# EAGLE library part STM32F446VET6_MULTI_SYMBOL (library U-ST-STM32F446VE-uC)
STMICROELECTRONICS - STM32F446VET6 - MCU, 32BIT, CORTEX-M4, 180MHZ, LQFP-100 Source: Datasheet <https://www.mouser.com/datasheet/2/389/stm32f446mc-956216.pdf>
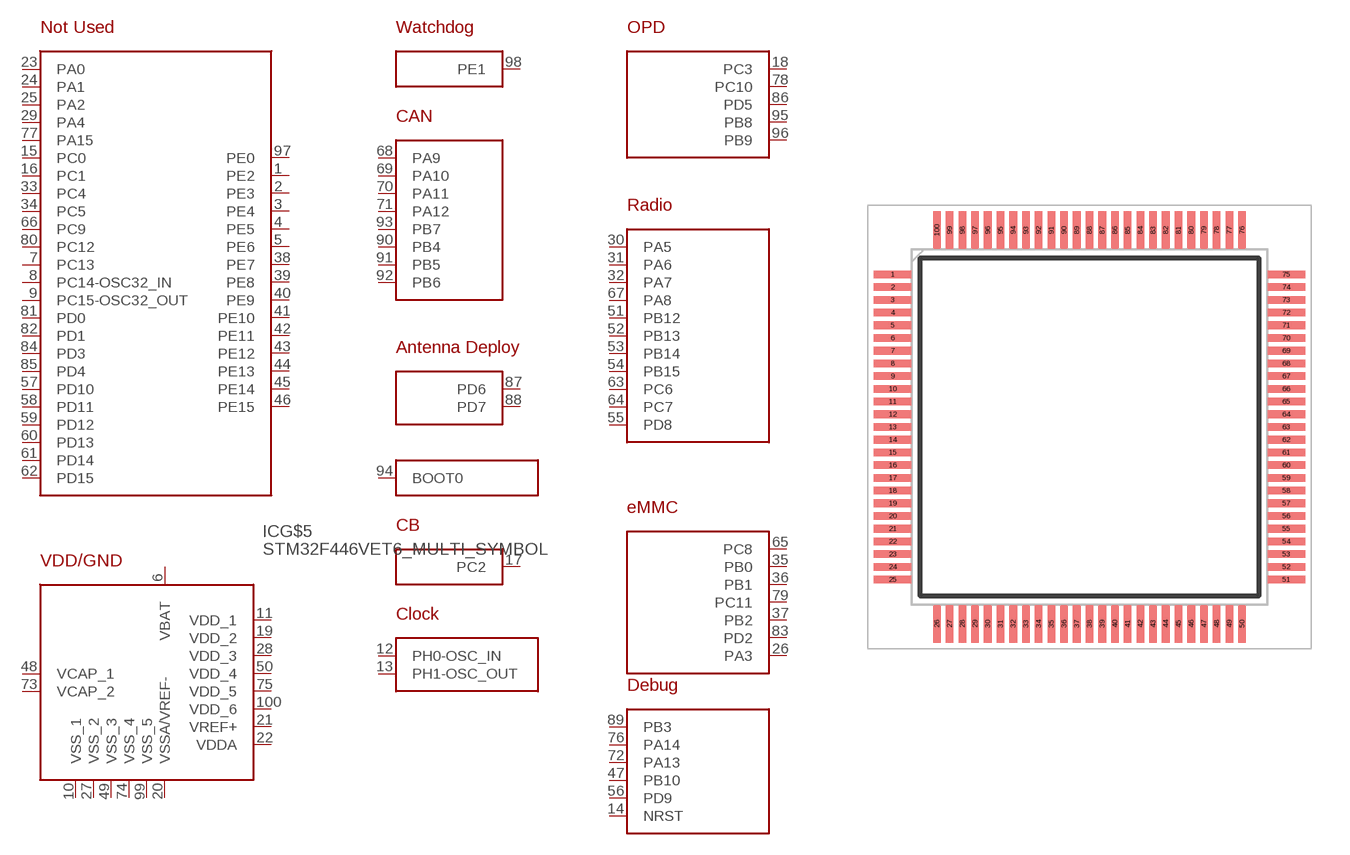
[diagram p1: symbol with the pads of QFP50P1600X1600X160-100N; footprint QFP50P1600X1600X160-100N]

Designator prefix IC; gates G$1=STM32F446VET6_CAN G$2=STM32F446VET6_!USED G$3=STM32F446VET6_RADIO G$4=STM32F446VET6_SD G$5=STM32F446VET6_VDD G$6=STM32F446VET6_BOOT G$7=STM32F446VET6_ANTENNA_DEPLOY G$8=STM32F446VET6_CB G$9=STM32F446VET6_CRYSTAL G$10=STM32F446VET6_DEBUG G$11=STM32F446VET6_OPD G$12=STM32F446VET6_WATCHDOG

## STM32F446VET6_MULTI_SYMBOL (DESCRIPTION: STMICROELECTRONICS - STM32F446VET6 - MCU, 32BIT, CORTEX-M4, 180MHZ, LQFP-100; HEIGHT: 1.6mm; MANUFACTURER_NAME: STMicroelectronics; MANUFACTURER_PART_NUMBER: STM32F446VET6; MOUSER_PART_NUMBER: 511-STM32F446VET6; MOUSER_PRICE-STOCK: https://www.mouser.com/Search/Refine.aspx?Keyword=511-STM32F446VET6; RS_PART_NUMBER: 1962043; RS_PRICE-STOCK: http://uk.rs-online.com/web/p/products/1962043)  [QFP50P1600X1600X160-100N]
1  G$2:PE2
2  G$2:PE3
3  G$2:PE4
4  G$2:PE5
5  G$2:PE6
6  G$5:VBAT
7  G$2:PC13
8  G$2:PC14-OSC32_IN
9  G$2:PC15-OSC32_OUT
10  G$5:VSS_1
11  G$5:VDD_1
12  G$9:PH0-OSC_IN
13  G$9:PH1-OSC_OUT
14  G$10:NRST
15  G$2:PC0
16  G$2:PC1
17  G$8:PC2
18  G$11:PC3
19  G$5:VDD_2
20  G$5:VSSA/VREF-
21  G$5:VREF+
22  G$5:VDDA
23  G$2:PA0
24  G$2:PA1
25  G$2:PA2
26  G$4:PA3
27  G$5:VSS_2
28  G$5:VDD_3
29  G$2:PA4
30  G$3:PA5
31  G$3:PA6
32  G$3:PA7
33  G$2:PC4
34  G$2:PC5
35  G$4:PB0
36  G$4:PB1
37  G$4:PB2
38  G$2:PE7
39  G$2:PE8
40  G$2:PE9
41  G$2:PE10
42  G$2:PE11
43  G$2:PE12
44  G$2:PE13
45  G$2:PE14
46  G$2:PE15
47  G$10:PB10
48  G$5:VCAP_1
49  G$5:VSS_3
50  G$5:VDD_4
51  G$3:PB12
52  G$3:PB13
53  G$3:PB14
54  G$3:PB15
55  G$3:PD8
56  G$10:PD9
57  G$2:PD10
58  G$2:PD11
59  G$2:PD12
60  G$2:PD13
61  G$2:PD14
62  G$2:PD15
63  G$3:PC6
64  G$3:PC7
65  G$4:PC8
66  G$2:PC9
67  G$3:PA8
68  G$1:PA9
69  G$1:PA10
70  G$1:PA11
71  G$1:PA12
72  G$10:PA13
73  G$5:VCAP_2
74  G$5:VSS_4
75  G$5:VDD_5
76  G$10:PA14
77  G$2:PA15
78  G$11:PC10
79  G$4:PC11
80  G$2:PC12
81  G$2:PD0
82  G$2:PD1
83  G$4:PD2
84  G$2:PD3
85  G$2:PD4
86  G$11:PD5
87  G$7:PD6
88  G$7:PD7
89  G$10:PB3
90  G$1:PB4
91  G$1:PB5
92  G$1:PB6
93  G$1:PB7
94  G$6:BOOT0
95  G$11:PB8
96  G$11:PB9
97  G$2:PE0
98  G$12:PE1
99  G$5:VSS_5
100  G$5:VDD_6

## Footprint QFP50P1600X1600X160-100N (pad centres in mm)
STM32F446VET6
smd 1.475 x 0.3: 1 -7.738,6; 2 -7.738,5.5; 3 -7.738,5; 4 -7.738,4.5; 5 -7.738,4; 6 -7.738,3.5; 7 -7.738,3; 8 -7.738,2.5; 9 -7.738,2; 10 -7.738,1.5; 11 -7.738,1; 12 -7.738,0.5; 13 -7.738,0; 14 -7.738,-0.5; 15 -7.738,-1; 16 -7.738,-1.5; 17 -7.738,-2; 18 -7.738,-2.5; 19 -7.738,-3; 20 -7.738,-3.5; 21 -7.738,-4; 22 -7.738,-4.5; 23 -7.738,-5; 24 -7.738,-5.5; 25 -7.738,-6; 51 7.738,-6; 52 7.738,-5.5; 53 7.738,-5; 54 7.738,-4.5; 55 7.738,-4; 56 7.738,-3.5; 57 7.738,-3; 58 7.738,-2.5; 59 7.738,-2; 60 7.738,-1.5; 61 7.738,-1; 62 7.738,-0.5; 63 7.738,0; 64 7.738,0.5; 65 7.738,1; 66 7.738,1.5; 67 7.738,2; 68 7.738,2.5; 69 7.738,3; 70 7.738,3.5; 71 7.738,4; 72 7.738,4.5; 73 7.738,5; 74 7.738,5.5; 75 7.738,6
smd 0.3 x 1.475: 26 -6,-7.738; 27 -5.5,-7.738; 28 -5,-7.738; 29 -4.5,-7.738; 30 -4,-7.738; 31 -3.5,-7.738; 32 -3,-7.738; 33 -2.5,-7.738; 34 -2,-7.738; 35 -1.5,-7.738; 36 -1,-7.738; 37 -0.5,-7.738; 38 0,-7.738; 39 0.5,-7.738; 40 1,-7.738; 41 1.5,-7.738; 42 2,-7.738; 43 2.5,-7.738; 44 3,-7.738; 45 3.5,-7.738; 46 4,-7.738; 47 4.5,-7.738; 48 5,-7.738; 49 5.5,-7.738; 50 6,-7.738; 76 6,7.738; 77 5.5,7.738; 78 5,7.738; 79 4.5,7.738; 80 4,7.738; 81 3.5,7.738; 82 3,7.738; 83 2.5,7.738; 84 2,7.738; 85 1.5,7.738; 86 1,7.738; 87 0.5,7.738; 88 0,7.738; 89 -0.5,7.738; 90 -1,7.738; 91 -1.5,7.738; 92 -2,7.738; 93 -2.5,7.738; 94 -3,7.738; 95 -3.5,7.738; 96 -4,7.738; 97 -4.5,7.738; 98 -5,7.738; 99 -5.5,7.738; 100 -6,7.738